# Altium schematic symbol library My_lib.SchLib: 6 symbols
Pins are listed as number, name and electrical type; pins without a type are passive.

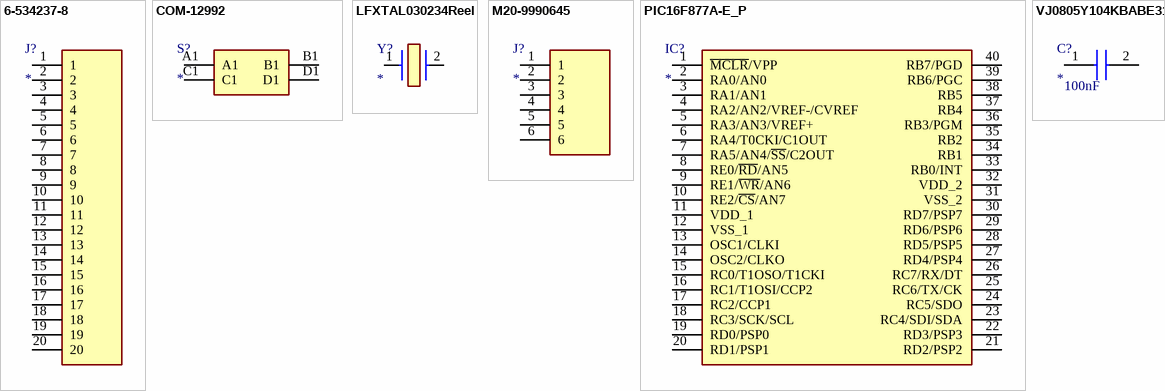
[diagram p0: symbols 6-534237-8 to VJ0805Y104KBABE31]

## 6-534237-8
designator J?
Connector; Manufacturer_Name: TE Connectivity; Manufacturer_Part_Number: 6-534237-8; Description: Headers & Wire Housings REC 1X20P VRT T/H; Datasheet Link: https://componentsearchengine.com/Datasheets/1/6-534237-8.pdf; Height: 8.89mm; Mouser Part Number: 571-6-534237-8; Mouser Price/Stock: https://www.mouser.co.uk/ProductDetail/TE-Connectivity/6-534237-8?qs=xDp7PGUNC%252BtPvTSnQ1ELZA%3D%3D; Arrow Part Number: 6-534237-8; Arrow Price/Stock: https://www.arrow.com/en/products/6-534237-8/te-connectivity
footprint RHDR20W76P0X254_1X20_5080X356X889P
pins: 1, 2, 3, 4, 5, 6, 7, 8, 9, 10, 11, 12, 13, 14, 15, 16, 17, 18, 19, 20

## COM-12992
designator S?
Switch; Manufacturer_Name: SparkFun; Manufacturer_Part_Number: COM-12992; Datasheet Link: https://cdn.sparkfun.com/datasheets/Components/Switches/COM-12922_datasheet%20SW-033.jpg; Height: 7.1mm; Mouser Part Number: 474-COM-12992; Mouser Price/Stock: https://www.mouser.co.uk/ProductDetail/SparkFun/COM-12992?qs=WyAARYrbSnYTYDS2ryqd9A%3D%3D; Arrow Part Number: COM-12992; Arrow Price/Stock: https://www.arrow.com/en/products/com-12992/sparkfun-electronics?region=nac
footprint COM12992
footprint COM12992
pins: A1, B1, C1, D1

## LFXTAL030234Reel
designator Y?
Crystal or Oscillator; Manufacturer_Name: IQD; Manufacturer_Part_Number: LFXTAL030234Reel; Datasheet Link: https://www.mouser.fr/datasheet/2/741/LFXTAL030234Reel-996371.pdf; Height: 4.3mm; Mouser Part Number: 449-LFXTAL030234REEL; Mouser Price/Stock: https://www.mouser.co.uk/ProductDetail/IQD/LFXTAL030234Reel?qs=e4%2FAndAAwgKRGsJIO2WnVQ%3D%3D; Arrow Part Number: LFXTAL030234REEL; Arrow Price/Stock: https://www.arrow.com/en/products/lfxtal030234reel/iqd-frequency-products
footprint LFXTAL030234Reel
pins: 1 CRYSTAL_1, 2 CRYSTAL_2

## M20-9990645
designator J?
Connector; Manufacturer_Name: Harwin; Manufacturer_Part_Number: M20-9990645; Description: M20 Header; Datasheet Link: https://cdn.harwin.com/pdfs/M20-999.pdf; Height: 8.74mm; Mouser Part Number: 855-M20-9990645; Mouser Price/Stock: https://www.mouser.co.uk/ProductDetail/Harwin/M20-9990645?qs=Jph8NoUxIfWe7BJQOhiVRg%3D%3D
footprint HDRV6W66P0X254_1X6_1524X254X874P
pins: 1, 2, 3, 4, 5, 6

## PIC16F877A-E_P
designator IC?
Integrated Circuit; Manufacturer_Name: Microchip; Manufacturer_Part_Number: PIC16F877A-E/P; Description: 8-bit Microcontrollers - MCU 14KB 368 RAM 33 I/O; Datasheet Link: https://datasheet.datasheetarchive.com/originals/distributors/Datasheets-18/DSA-359049.pdf; Height: 4.83mm; Mouser Part Number: 579-PIC16F877A-E/P; Mouser Price/Stock: https://www.mouser.co.uk/ProductDetail/Microchip-Technology/PIC16F877A-E-P?qs=oKK8NaWdAJsQw%252B2Y417CHw%3D%3D; Arrow Part Number: PIC16F877A-E/P; Arrow Price/Stock: https://www.arrow.com/en/products/pic16f877a-ep/microchip-technology?region=nac
footprint DIP1550W56P254L5219H483Q40N
pins: 1 ~{MCLR}/VPP, 2 RA0/AN0, 3 RA1/AN1, 4 RA2/AN2/VREF-/CVREF, 5 RA3/AN3/VREF+, 6 RA4/T0CKI/C1OUT, 7 RA5/AN4/~{SS}/C2OUT, 8 RE0/~{RD}/AN5, 9 RE1/~{WR}/AN6, 10 RE2/~{CS}/AN7, 11 VDD_1, 12 VSS_1, 13 OSC1/CLKI, 14 OSC2/CLKO, 15 RC0/T1OSO/T1CKI, 16 RC1/T1OSI/CCP2, 17 RC2/CCP1, 18 RC3/SCK/SCL, 19 RD0/PSP0, 20 RD1/PSP1, 21 RD2/PSP2, 22 RD3/PSP3, 23 RC4/SDI/SDA, 24 RC5/SDO, 25 RC6/TX/CK, 26 RC7/RX/DT, 27 RD4/PSP4, 28 RD5/PSP5, 29 RD6/PSP6, 30 RD7/PSP7, 31 VSS_2, 32 VDD_2, 33 RB0/INT, 34 RB1, 35 RB2, 36 RB3/PGM, 37 RB4, 38 RB5, 39 RB6/PGC, 40 RB7/PGD

## VJ0805Y104KBABE31
designator C?  value 100nF
Capacitor; Manufacturer_Name: Vishay; Manufacturer_Part_Number: VJ0805Y104KBABE31; Datasheet Link: https://eu.mouser.com/datasheet/2/427/vj31vj34automlcc-2902715.pdf; Height: 1.45mm; Mouser Part Number: 77-VJ0805Y104KBABE31; Mouser Price/Stock: https://www.mouser.co.uk/ProductDetail/Vishay-Vitramon/VJ0805Y104KBABE31?qs=TLaLXeh6c70yB%252BsdRZoYCQ%3D%3D
footprint CAPC2012X145N
footprint CAPC2012X145N
pins: 1, 2